# Altium schematic symbol library pengyulib.SchLib: 16 symbols
Pins are listed as number, name and electrical type; pins without a type are passive.

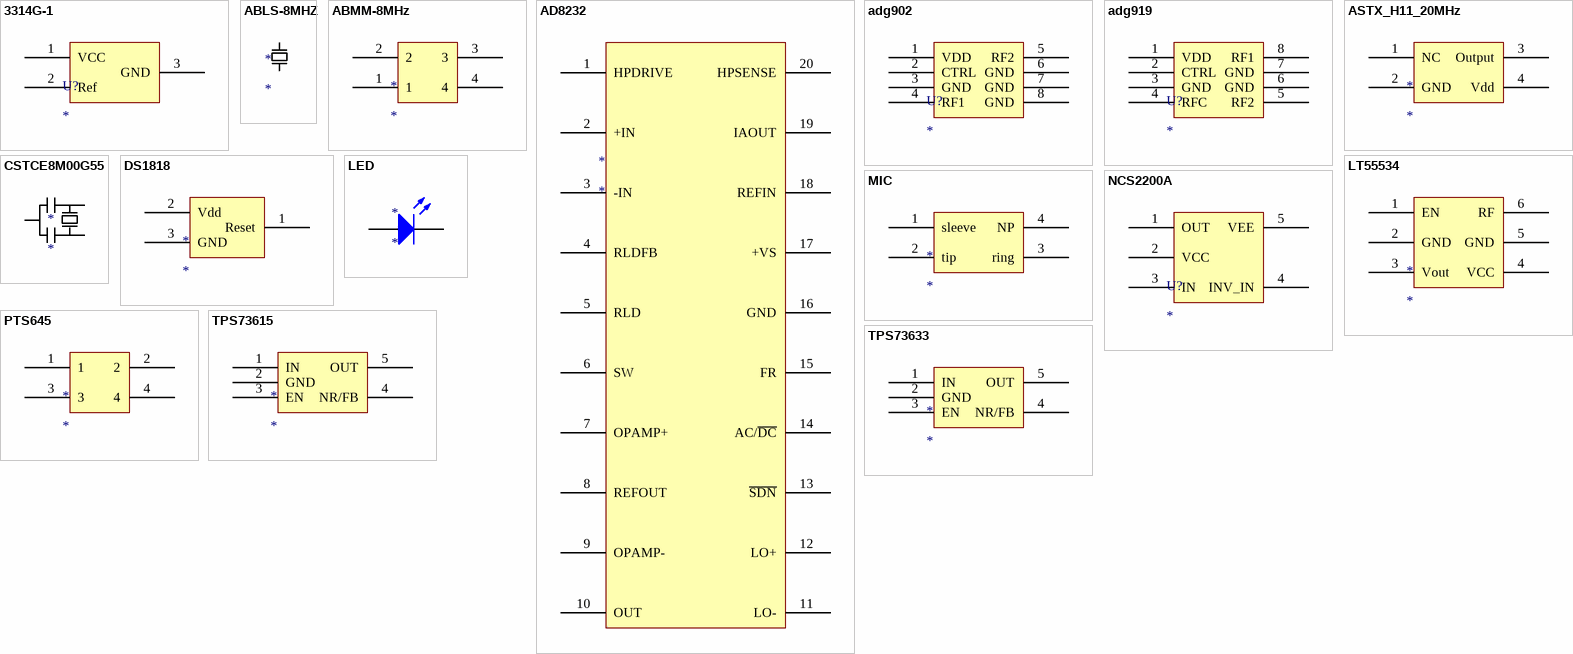
[diagram p0: symbols 3314G-1 to TPS73633]

## 3314G-1
designator U?
footprint 3314G-1
pins: 1 VCC, 2 Ref, 3 GND

## ABLS-8MHZ
designator *
footprint ABLS-8MHZ
pins: 1, 2

## ABMM-8MHz
designator *
footprint ABMM-8MHz
pins: 1, 2, 3, 4

## AD8232
designator *
pins: 1 HPDRIVE, 2 +IN, 3 -IN, 4 RLDFB, 5 RLD, 6 SW, 7 OPAMP+, 8 REFOUT, 9 OPAMP-, 10 OUT, 11 LO-, 12 LO+, 13 ~{SDN}, 14 AC/~{DC}, 15 FR, 16 GND, 17 +VS, 18 REFIN, 19 IAOUT, 20 HPSENSE

## adg902
designator U?
footprint ADG902
pins: 1 VDD, 2 CTRL, 3 GND, 4 RF1, 5 RF2, 6 GND, 7 GND, 8 GND

## adg919
designator U?
footprint ADG919
pins: 1 VDD, 2 CTRL, 3 GND, 4 RFC, 5 RF2, 6 GND, 7 GND, 8 RF1

## ASTX_H11_20MHz
designator *
footprint ASTX_H11
pins: 1 NC, 2 GND, 3 Output, 4 Vdd

## CSTCE8M00G55
designator *
footprint CSTCE8M00G55
pins: 1, 2, 3

## DS1818
designator *
pins: 1 Reset, 2 Vdd, 3 GND

## LED
designator *
footprint 0603 (Surface Mount; Body 1.6 x 0.8 mm (LxW typ))
pins: 1 A, 2 K

## LT55534
designator *
footprint LT5534 (SOT23, 6-Leads, Body 2.00x2.55mm, Pitch 0.65mm, IPC Medium Density)
pins: 1 EN, 2 GND, 3 Vout, 4 VCC, 5 GND, 6 RF

## MIC
designator *
footprint MIC
pins: 1 sleeve, 2 tip, 3 ring, 4 NP

## NCS2200A
designator U?
footprint NCS2200A
pins: 1 OUT, 2 VCC, 3 IN, 4 INV_IN, 5 VEE

## PTS645
designator *
footprint PTS645
pins: 1, 2, 3, 4

## TPS73615
designator *
TPS73615
footprint TPS73633
pins: 1 IN, 2 GND, 3 EN, 4 NR/FB, 5 OUT

## TPS73633
designator *
TPS73633
footprint TPS73633
pins: 1 IN, 2 GND, 3 EN, 4 NR/FB, 5 OUT